# Altium footprint library ATK-MB024.PcbLib: 15 footprints
Each footprint in its own frame and in the unit in brackets; x right, y up, seen from the top. Pads: shape width x height; smd on the part's side, far side on the other; paste and mask are expansions set on the pad; w line width, h text height; cw(c..) or ccw(c..) is an arc to the next point about the centre after c.
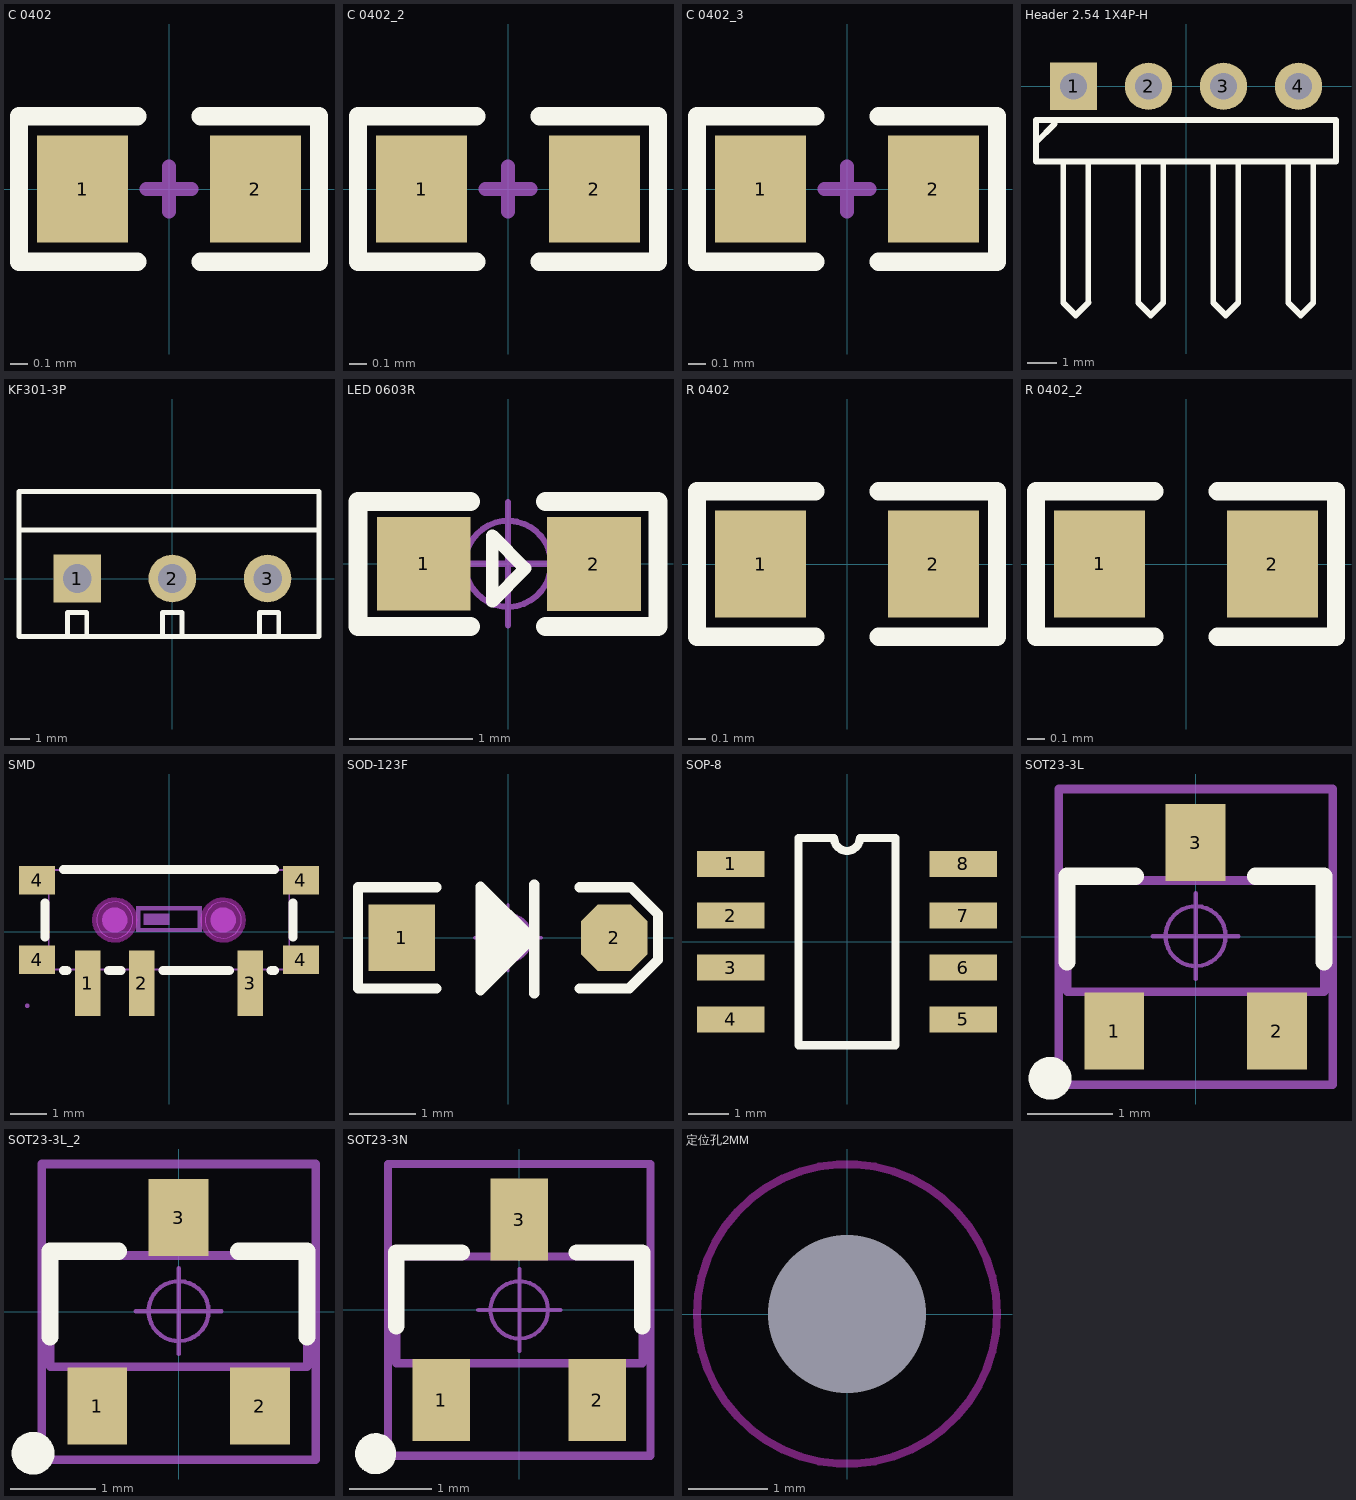
[diagram p0: the footprints below, top view; thin cyan lines are the x and y axes]

## C 0402 [mil] "无极性贴片电容"
height 390.16
pads (2):
  rect 20x23.62 smd mask+2: 1(-19,0) 2(19,0)
Top Overlay:
  lines w4: -7,-16 -33,-16 -33,16 -7,16 ; 7,-16 33,-16 33,16 7,16
Mechanical 15:
  lines w3: -5,0 5,0 ; 0,-5 0,5
3D body "C 0402.STEP": height 20.08, standoff -0.39, extent -19.69,-10.24 19.69,10.24

## C 0402_2 [mil]
pads (2):
  rect 20x23.62 smd mask+2: 1(-19,0) 2(19,0)
Top Overlay:
  lines w4: -7,-16 -33,-16 -33,16 -7,16 ; 7,-16 33,-16 33,16 7,16
Mechanical 15:
  lines w3: -5,0 5,0 ; 0,-5 0,5
3D body "C 0402.STEP": height 20.08, standoff -0.39, extent -19.69,-10.24 19.69,10.24

## C 0402_3 [mil]
pads (2):
  rect 20x23.62 smd mask+2: 1(-19,0) 2(19,0)
Top Overlay:
  lines w4: -7,-16 -33,-16 -33,16 -7,16 ; 7,-16 33,-16 33,16 7,16
Mechanical 15:
  lines w3: -5,0 5,0 ; 0,-5 0,5
3D body "C 0402.STEP": height 20.08, standoff -0.39, extent -19.69,-10.24 19.69,10.24

## Header 2.54 1X4P-H [mm] "排针(1X4P,2.54,弯插)"
height 9.91
pads (4):
  rect 1.6x1.6 hole 0.9: 1(-3.81,0)
  round 1.6 hole 0.9: 2(-1.27,0) 3(1.27,0) 4(3.81,0)
Top Overlay:
  lines w0.2: -5.08,-1.905 -4.445,-1.27 ; -4.158,-2.54 -4.158,-7.332 -3.735,-7.755 -3.311,-7.332 -3.302,-7.323 ; -3.311,-7.323 -3.311,-2.54 ; -1.618,-2.54 -1.618,-7.332 -1.195,-7.755 -0.771,-7.332 ; -0.771,-7.323 -0.771,-2.54 ; 0.922,-2.54 0.922,-7.332 1.345,-7.755 1.769,-7.332 ; 1.769,-7.323 1.769,-2.54 ; 3.462,-2.54 3.462,-7.332 3.885,-7.755 4.309,-7.332 ; 4.309,-7.323 4.309,-2.54 ; -5.08,-2.54 5.08,-2.54 5.08,-1.143 -3.302,-1.143 -5.08,-1.143 -5.08,-2.54
3D body "HDR2.54-1P_H.STEP": height 4.85, standoff -3, extent 2.54,-7.77 5.08,1.27
3D body "HDR2.54-1P_H.STEP": height 4.85, standoff -3, extent 0,-7.77 2.54,1.27
3D body "HDR2.54-1P_H.STEP": height 4.85, standoff -3, extent -2.54,-7.77 0,1.27
3D body "HDR2.54-1P_H.STEP": height 4.85, standoff -3, extent -5.08,-7.77 -2.54,1.27

## KF301-3P [mm] "PCB接线端子KF301 5.0mm 3P 直插"
pads (3):
  rect 2.5x2.5 hole 1.5: 1(-5,0)
  round 2.5 hole 1.5: 2(0,0) 3(5,0)
Top Overlay:
  lines w0.254: -8.048,2.54 7.7,2.54 ; -5.508,-3.048 -5.508,-1.778 -4.492,-1.778 -4.492,-3.048 ; -0.508,-3.048 -0.508,-1.778 0.508,-1.778 0.508,-3.048 ; 4.572,-3.048 4.572,-1.778 5.588,-1.778 5.588,-3.048 ; -8.048,-3.048 -8.048,4.572 7.7,4.572 7.7,-3.048 -8.048,-3.048
3D body "KF301.STEP": height 10.05, standoff -3.75, extent 2.13,-3 7.63,4.6
3D body "KF301.STEP": height 10.05, standoff -3.75, extent -2.87,-3 2.63,4.6
3D body "KF301.STEP": height 10.05, standoff -3.75, extent -7.87,-3 -2.37,4.6

## LED 0603R [mil] "红色0603LED"
height 390.16
pads (2):
  rect 30x30 smd: 1(-27,0) 2(27.5,-0.06)
Top Overlay:
  lines w4: -5,-12 -5,9 5.5,-1.5 -5,-12
  lines w6: -12,-20.06 -48,-20.06 -48,19.94 -12,19.94 ; 12,-20.06 48,-20.06 48,19.94 12,19.94
Mechanical 15:
  circle w1.97: c0,0 r13.78
  lines w1.97: -19.68,0 19.68,0 ; 0,-19.68 0,19.68
3D body "LED 0603玻璃罩.STEP": height 23.82, standoff 8.07, extent -23.58,-15.79 23.58,15.79
3D body "LED 0603-R.STEP": height 18.34, standoff -0.16, extent -31.49,-15.78 31.5,15.8

## R 0402 [mil] "1/16W贴片电阻"
height 390.16
pads (2):
  rect 20x23.62 smd mask+2: 1(-19,0) 2(19,0)
Top Overlay:
  lines w4: -7,-16 -33,-16 -33,16 -7,16 ; 7,-16 33,-16 33,16 7,16
3D body "R 0402.STEP": height 11.85, standoff -0.09, extent -19.68,-9.84 19.69,9.85

## R 0402_2 [mil]
pads (2):
  rect 20x23.62 smd mask+2: 1(-19,0) 2(19,0)
Top Overlay:
  lines w4: -7,-16 -33,-16 -33,16 -7,16 ; 7,-16 33,-16 33,16 7,16
3D body "R 0402.STEP": height 11.85, standoff -0.09, extent -19.68,-9.84 19.69,9.85

## SMD [mm] "拨动开关 7.35 2.25"
height 9.91
pads (7):
  rect 0.7x1.8 smd: 1(-2.25,-1.425) 2(-0.75,-1.425) 3(2.25,-1.425)
  rect 1x0.8 smd: 4(-3.65,-0.775) 4(-3.65,1.425) 4(3.65,-0.775) 4(3.65,1.425)
Top Overlay:
  lines w0.254: -3.429,-0.144 -3.429,0.794 ; -2.919,-1.072 -2.831,-1.072 ; -2.919,1.722 2.921,1.722 ; -1.669,-1.072 -1.331,-1.072 ; -0.169,-1.072 1.669,-1.072 ; 2.831,-1.072 2.919,-1.072 ; 3.429,-0.144 3.429,0.794
Keep-Out Layer:
  board cut-out: 2,0.325 2,0.425 1.924,0.608 1.783,0.749 1.599,0.825 1.4,0.825 1.217,0.749 1.076,0.608 1,0.424 1,0.325 1,0.226 1.076,0.042 1.217,-0.099 1.4,-0.175 1.599,-0.175 1.783,-0.099 1.924,0.042 2,0.226 2,0.325
  board cut-out: -1,0.325 -1,0.425 -1.076,0.608 -1.217,0.749 -1.401,0.825 -1.6,0.825 -1.783,0.749 -1.924,0.608 -2,0.424 -2,0.325 -2,0.226 -1.924,0.042 -1.783,-0.099 -1.6,-0.175 -1.401,-0.175 -1.217,-0.099 -1.076,0.042 -1,0.226 -1,0.325
Mechanical 1:
  circle w0.025: c1.5,0.325 r0.5
  circle w0.025: c-1.5,0.325 r0.5
Mechanical 6:
  circle w0.35: c1.5,0.325 r0.175
  circle w0.35: c-1.5,0.325 r0.175
  region: -0.7,0.5 -0.7,0.2 0,0.2 0,0.5
  region: -0.8,0.7 0.8,0.7 0.8,0.6 -0.8,0.6
  region: -0.8,0 0.8,0 0.8,0.1 -0.8,0.1
  region: 0.9,0 0.9,0.7 0.8,0.7 0.8,0
  region: -0.9,0 -0.9,0.7 -0.8,0.7 -0.8,0
Mechanical 15:
  region: -3.862,-2.045 -3.862,-2.02 -3.897,-1.985 -3.947,-1.985 -3.982,-2.02 -3.982,-2.045 -3.982,-2.07 -3.947,-2.105 -3.897,-2.105 -3.862,-2.07 -3.862,-2.045
  region: -3.292,-0.645 -3.292,-1.045 -3.922,-1.045 -3.922,-0.645
  region: 3.917,-0.645 3.917,-1.045 3.287,-1.045 3.287,-0.645
  region: 3.917,1.705 3.917,1.305 3.287,1.305 3.287,1.705
  region: -3.292,1.705 -3.292,1.305 -3.922,1.305 -3.922,1.705
  region: 2.05,-0.545 2.45,-0.545 2.45,-2.045 2.05,-2.045
  region: -0.95,-0.545 -0.55,-0.545 -0.55,-2.045 -0.95,-2.045
  region: -2.45,-0.545 -2.05,-0.545 -2.05,-2.045 -2.45,-2.045
  lines w0.051: -3.325,-1.045 3.325,-1.045 3.325,1.705 -3.325,1.705 -3.325,-1.045
Multi-Layer keep-out:
  circle w0.254: c1.5,0.325 r0.5
  circle w0.254: c-1.5,0.325 r0.5
3D body "1_asm.stp": height 3.4, standoff -0.5, extent -3.9,-2.135 3.9,1.625

## SOD-123F [mm]
height 9.91
pads (2):
  rect 1x1 smd: 1(-1.6,0)
  oct 1x1 smd: 2(1.6,0)
Top Overlay:
  lines w0.152: -1.079,-0.762 -2.261,-0.762 -2.261,0.762 -1.079,0.762 ; -0.34,0.648 -0.34,-0.559 0.235,0.016 -0.206,0.457 -0.206,-0.38 0.123,-0.051 0.098,-0.051 -0.206,0.254 -0.206,-0.016 -0.024,-0.198 0.052,-0.198 -0.206,0.061 ; 0.356,-0.02 -0.417,-0.792 -0.417,0.775 0.396,-0.038 ; 0.396,-0.841 0.396,0.805 ; 1.079,-0.762 1.829,-0.762 2.261,-0.33 2.261,0.356 1.854,0.762 1.079,0.762
Mechanical 15:
  circle w0.05: c0,0 r0.35
  lines w0.05: -0.5,0 0.5,0 ; 0,-0.5 0,0.5
3D body "SOD-123F.STEP": height 1.15, standoff 0.04, extent -1.9,-0.8 1.9,0.8

## SOP-8 [mm] "SOP"
height 1
pads (8):
  rect 1.651x0.635 smd: 1(-2.85,1.905) 2(-2.85,0.635) 3(-2.85,-0.635) 4(-2.85,-1.905) 5(2.85,-1.905) 6(2.85,-0.635) 7(2.85,0.635) 8(2.85,1.905)
Top Overlay:
  lines w0.2: -1.189,-2.54 -1.189,2.54 -0.317,2.54 ccw(c0,2.54) 0.318,2.54 1.19,2.54 1.19,-2.54 -1.189,-2.54
3D body "User Library-SOIC8_JEDEC_MS-012AA.STEP": height 1.75, standoff -0.01, extent -3.125,-2.6 3.074,2.4

## SOT23-3L [mm] "3x1.3x1mm(长宽高)"
height 1.1
pads (3):
  rect 0.7x0.9 smd: 1(-0.95,-1.1) 2(0.95,-1.1) 3(0,1.1)
Top Overlay:
  circle w0.25: c-1.7,-1.651 r0.125
  lines w0.2: -1.5,-0.291 -1.5,0.709 -0.7,0.709 ; 0.7,0.709 1.5,0.709 1.5,-0.291
Mechanical 13:
  lines w0.1: -1.5,-0.641 -1.5,0.659 1.5,0.659 1.5,-0.641 -1.5,-0.641
Mechanical 15:
  circle w0.05: c0,0.009 r0.35
  lines w0.05: -0.5,0.009 0.5,0.009 ; 0,-0.491 0,0.509
  lines w0.1: -1.6,-1.727 -1.6,1.727 1.6,1.727 1.6,-1.727 -1.6,-1.727
3D body "SOT23-3.STEP": height 1.05, standoff 0, extent -1.5,-1.191 1.5,1.209

## SOT23-3L_2 [mm]
pads (3):
  rect 0.7x0.9 smd: 1(-0.95,-1.1) 2(0.95,-1.1) 3(0,1.1)
Top Overlay:
  circle w0.25: c-1.7,-1.651 r0.125
  lines w0.2: -1.5,-0.291 -1.5,0.709 -0.7,0.709 ; 0.7,0.709 1.5,0.709 1.5,-0.291
Mechanical 13:
  lines w0.1: -1.5,-0.641 -1.5,0.659 1.5,0.659 1.5,-0.641 -1.5,-0.641
Mechanical 15:
  circle w0.05: c0,0.009 r0.35
  lines w0.05: -0.5,0.009 0.5,0.009 ; 0,-0.491 0,0.509
  lines w0.1: -1.6,-1.727 -1.6,1.727 1.6,1.727 1.6,-1.727 -1.6,-1.727
3D body "SOT23-3.STEP": height 1.05, standoff 0, extent -1.5,-1.191 1.5,1.209

## SOT23-3N [mm]
height 9.91
pads (3):
  rect 0.7x1 smd: 1(-0.95,-1.1) 2(0.95,-1.1) 3(0,1.1)
Top Overlay:
  circle w0.25: c-1.751,-1.753 r0.125
  lines w0.2: -1.501,-0.2 -1.501,0.7 -0.701,0.7 ; 0.699,0.7 1.499,0.7 1.499,-0.2
Mechanical 13:
  lines w0.1: -1.5,-0.65 -1.5,0.65 1.5,0.65 1.5,-0.65 -1.5,-0.65
Mechanical 15:
  circle w0.05: c0,0 r0.35
  lines w0.05: -0.5,0 0.5,0 ; 0,-0.5 0,0.5
  lines w0.1: -1.6,-1.778 -1.6,1.778 1.6,1.778 1.6,-1.778 -1.6,-1.778
3D body "SOT23-3.STEP": height 1.05, standoff 0, extent -1.5,-1.2 1.5,1.2

## 定位孔2MM [mm] "2.0mm定位孔"
height 9.91
pads (1):
  round 0 hole 2 unplated: 3(0,0)
Top Solder:
  circle w1: c0,0 r1.4
Bottom Solder:
  circle w1: c0,0 r1.4
Keep-Out Layer:
  circle w0.102: c0,0 r1.9